# Altium footprint library Components - 25.10.25 - 14.32.PcbLib: 1 footprints
Each footprint in its own frame and in the unit in brackets; x right, y up, seen from the top. Pads: shape width x height; smd on the part's side, far side on the other; paste and mask are expansions set on the pad; w line width, h text height; cw(c..) or ccw(c..) is an arc to the next point about the centre after c.
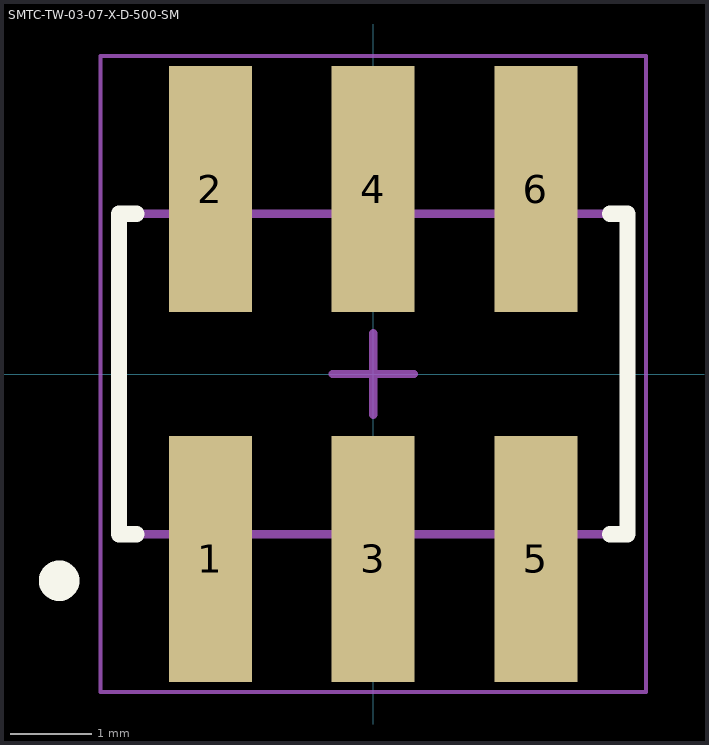
[diagram p0: the footprint, top view; thin cyan lines are the x and y axes]

## SMTC-TW-03-07-X-D-500-SM [mm] "SMT Board Stacking Terminal Strip ASM, 2x3 Pins, Vertical, 2mm Pitch, Male"
height 17.35
pads (6):
  rect 1.02x3.025 smd: 1(-2,-2.272) 2(-2,2.272) 3(0,-2.272) 4(0,2.272) 5(2,-2.272) 6(2,2.272)
Top Overlay:
  circle w0.25: c-3.86,-2.54 r0.125
  lines w0.2: -2.91,-1.97 -3.125,-1.97 -3.125,1.97 -2.91,1.97 ; 2.91,-1.97 3.125,-1.97 3.125,1.97 2.91,1.97
Mechanical 13:
  lines w0.1: -3.125,-1.97 -3.125,1.97 3.125,1.97 3.125,-1.97 -3.125,-1.97
Mechanical 15:
  lines w0.05: -3.35,-3.91 -3.35,3.91 3.35,3.91 3.35,-3.91 -3.35,-3.91
  lines w0.1: -0.5,0 0.5,0 ; 0,-0.5 0,0.5
3D body "TW-03-07-X-D-500-SM.step": height 17.35, standoff 0, extent -3,-3.365 3,3.366